# Altium footprint library J28.PcbLib: 1 footprints
Each footprint in its own frame and in the unit in brackets; x right, y up, seen from the top. Pads: shape width x height; smd on the part's side, far side on the other; paste and mask are expansions set on the pad; w line width, h text height; cw(c..) or ccw(c..) is an arc to the next point about the centre after c.
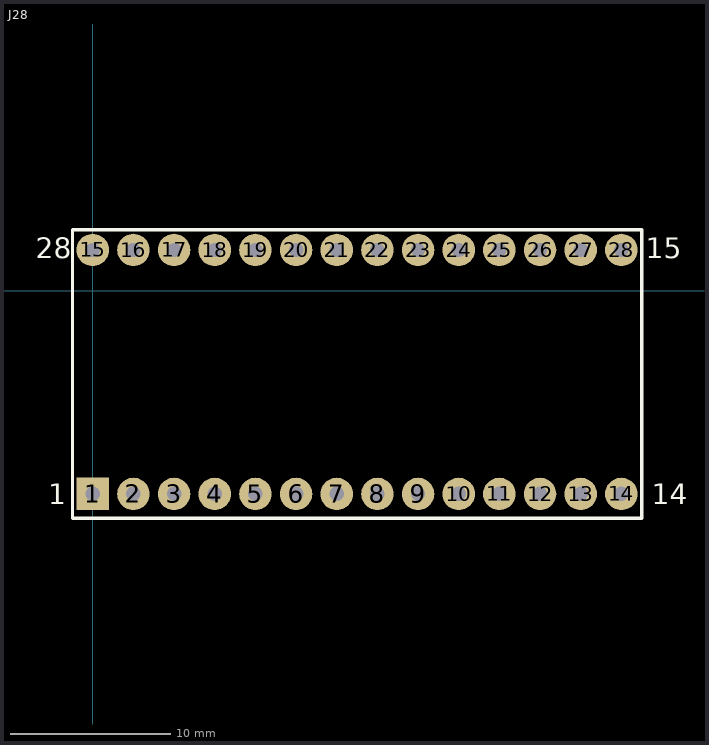
[diagram p0: the footprint, top view; thin cyan lines are the x and y axes]

## J28 [mil]
pads (28):
  rect 80x80 hole 35.43: 1(0,-500)
  round 80 hole 35.43: 2(100,-500) 3(200,-500) 4(300,-500) 5(400,-500) 6(500,-500) 7(600,-500) 8(700,-500) 9(800,-500) 10(900,-500) 11(1000,-500) 12(1100,-500) 13(1200,-500) 14(1300,-500) 15(0,100) 16(100,100) 17(200,100) 18(300,100) 19(400,100) 20(500,100) 21(600,100) 22(700,100) 23(800,100) 24(900,100) 25(1000,100) 26(1100,100) 27(1200,100) 28(1300,100)
Top Overlay:
  lines w7.87: -50,-560 1350,-560 1350,150 -50,150 -50,-560
  text "28" at -140,80 h50
  text "1" at -110,-525 h50
  text "14" at 1375,-525 h50
  text "15" at 1360,80 h50